# Altium footprint library PCB2.PcbLib: 26 footprints (part 1 of 2)
Each footprint in its own frame and in the unit in brackets; x right, y up, seen from the top. Pads: shape width x height; smd on the part's side, far side on the other; paste and mask are expansions set on the pad; w line width, h text height; cw(c..) or ccw(c..) is an arc to the next point about the centre after c.
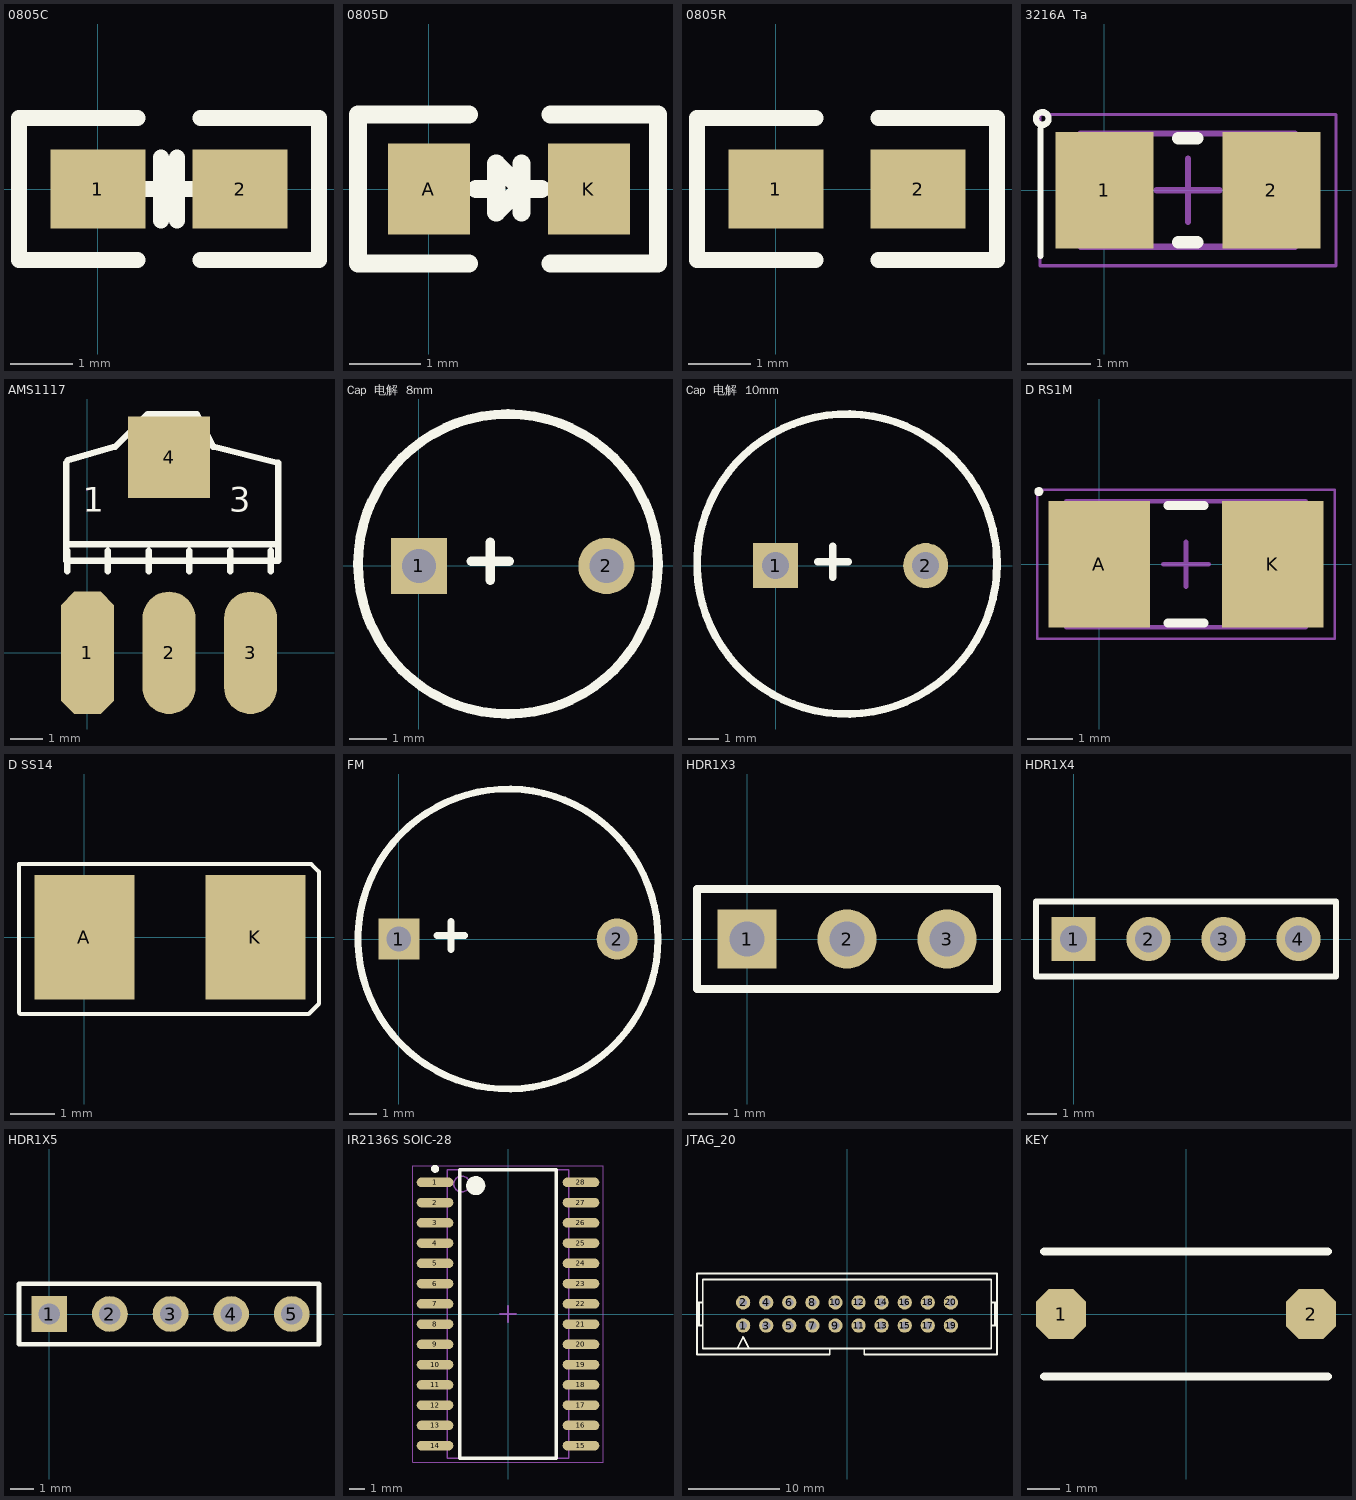
[diagram p0: the footprints below, top view; thin cyan lines are the x and y axes]

## 0805C [mil]
pads (2):
  rect 60x50 smd: 1(0,0) 2(90,0)
Top Overlay:
  lines w10: 25,-45 -50,-45 -50,45 25,45 ; 30,0 40,0 ; 40,-20 40,20 ; 50,-20 50,20 ; 50,0 60,0 ; 65,-45 140,-45 140,45 65,45

## 0805D [mil]
pads (2):
  rect 45x50 smd: A(0,0) K(88,0)
Top Overlay:
  lines w10: 22,-41 -39,-41 -39,41 22,41 ; 26,0 36,0 ; 51,-13 51,14 ; 62,0 51,0 ; 67,-41 126,-41 126,41 67,41 ; 51,0 50,0 37,-13 37,14 51,0

## 0805R [mil]
pads (2):
  rect 60x50 smd: 1(0,0) 2(90,0)
Top Overlay:
  lines w10: 25,-45 -50,-45 -50,45 25,45 ; 65,-45 140,-45 140,45 65,45

## 3216A  Ta [mm]
pads (2):
  rect 1.55x1.85 smd: 1(0,0) 2(2.65,0)
Top Overlay:
  circle w0.1: c-0.987,1.137 r0.1
  lines w0.1: -1.016,-1.041 -1.016,0.965
  lines w0.2: 1.175,-0.825 1.475,-0.825 ; 1.175,0.825 1.475,0.825
Mechanical 13:
  lines w0.1: -0.375,-0.9 -0.375,0.9 3.025,0.9 3.025,-0.9 -0.375,-0.9
Mechanical 15:
  lines w0.05: -1.025,-1.2 -1.025,1.2 3.675,1.2 3.675,-1.2 -1.025,-1.2
  lines w0.1: 0.825,0 1.825,0 ; 1.325,-0.5 1.325,0.5
3D body: height 1.7, standoff 0, extent 0.575,-0.9 2.075,0.9
3D body: height 1.7, standoff 0, extent -0.375,-0.9 0.575,0.9
3D body: height 1.7, standoff 0, extent 2.075,-0.9 3.025,0.9

## AMS1117 [mil]
pads (4):
  oct 65x150 smd: 1(0.03,-0.06)
  oval 65x150 smd: 2(100.03,-0.06) 3(200.03,-0.06)
  rect 100x100 smd: 4(100.03,239.94)
Top Overlay:
  lines w7.87: -25.97,232.94 -25.97,132.94 ; -24.97,99.94 -24.97,124.94 ; -24.3,236.27 34.03,252.94 74.03,292.94 134.03,292.94 154.03,252.94 234.03,232.94 234.03,112.94 ; 25.03,99.94 25.03,124.94 ; 75.03,99.94 75.03,124.94 ; 125.03,99.94 125.03,124.94 ; 175.03,99.94 175.03,124.94 ; 225.03,99.94 225.03,124.94 ; -25.97,132.94 -25.97,112.94 234.03,112.94 ; -25.97,132.94 234.03,132.94 234.03,112.94
  text "1" at -5.97,172.94 h30
  text "3" at 174.03,172.94 h30

## Cap  电解  8mm [mm]
pads (2):
  rect 1.5x1.5 hole 0.9: 1(0,0)
  round 1.5 hole 0.9: 2(5,0)
Top Overlay:
  circle w0.254: c2.375,0.051 r4
  lines w0.254: 1.397,0.127 2.413,0.127 ; 1.905,-0.381 1.905,0.635

## Cap  电解  10mm [mm]
pads (2):
  rect 1.5x1.5 hole 0.9: 1(0,0)
  round 1.5 hole 0.9: 2(5,0)
Top Overlay:
  circle w0.254: c2.375,0.051 r5
  lines w0.254: 1.397,0.127 2.413,0.127 ; 1.905,-0.381 1.905,0.635

## D RS1M [mm]
pads (2):
  rect 2.25x2.8 smd: A(0,0) K(3.85,0)
Top Overlay:
  circle w0.1: c-1.337,1.612 r0.05
  lines w0.2: 1.525,-1.3 2.325,-1.3 ; 1.525,1.3 2.325,1.3
Mechanical 13:
  lines w0.1: -0.725,-1.395 -0.725,1.395 4.575,1.395 4.575,-1.395 -0.725,-1.395
Mechanical 15:
  lines w0.05: -1.375,-1.65 -1.375,1.65 5.225,1.65 5.225,-1.65 -1.375,-1.65
  lines w0.1: 1.425,0 2.425,0 ; 1.925,-0.5 1.925,0.5
3D body: height 2.3, standoff 0, extent 0.525,-1.395 3.325,1.395
3D body: height 2.3, standoff 0, extent -0.725,-1.395 0.525,1.395
3D body: height 2.3, standoff 0, extent 3.325,-1.395 4.575,1.395

## D SS14 [mm]
pads (2):
  rect 2.25x2.8 smd: A(0,0) K(3.85,0)
Top Overlay:
  lines w0.1: -1.473,-1.702 -1.473,1.651 -1.194,1.651 5.105,1.651 5.283,1.473 5.283,-1.499 5.055,-1.727 -1.448,-1.727 -1.473,-1.702

## FM [mm]
pads (2):
  rect 1.5x1.5 hole 0.9: 1(0,0)
  round 1.5 hole 0.9: 2(8,0)
Top Overlay:
  circle w0.254: c4,0 r5.5
  lines w0.254: 1.397,0.127 2.413,0.127 ; 1.905,-0.381 1.905,0.635

## HDR1X3 [mm]
pads (3):
  rect 1.5x1.5 hole 0.9: 1(0,0)
  round 1.5 hole 0.9: 2(2.54,0) 3(5.08,0)
Top Overlay:
  lines w0.2: -1.27,-1.27 6.35,-1.27 6.35,1.27 -1.27,1.27 -1.27,-1.27

## HDR1X4 [mm]
pads (4):
  rect 1.5x1.5 hole 0.9: 1(0,0)
  round 1.5 hole 0.9: 2(2.54,0) 3(5.08,0) 4(7.62,0)
Top Overlay:
  lines w0.2: -1.27,-1.27 8.89,-1.27 8.89,1.27 -1.27,1.27 -1.27,-1.27

## HDR1X5 [mm]
pads (5):
  rect 1.5x1.5 hole 0.9: 1(0,0)
  round 1.5 hole 0.9: 2(2.54,0) 3(5.08,0) 4(7.62,0) 5(10.16,0)
Top Overlay:
  lines w0.2: -1.27,-1.27 11.303,-1.27 11.303,1.27 -1.27,1.27 -1.27,-1.27

## IR2136S SOIC-28 [mm]
pads (28):
  oval 2.3x0.6 smd: 1(-4.575,8.255) 2(-4.575,6.985) 3(-4.575,5.715) 4(-4.575,4.445) 5(-4.575,3.175) 6(-4.575,1.905) 7(-4.575,0.635) 8(-4.575,-0.635) 9(-4.575,-1.905) 10(-4.575,-3.175) 11(-4.575,-4.445) 12(-4.575,-5.715) 13(-4.575,-6.985) 14(-4.575,-8.255) 15(4.575,-8.255) 16(4.575,-6.985) 17(4.575,-5.715) 18(4.575,-4.445) 19(4.575,-3.175) 20(4.575,-1.905) 21(4.575,-0.635) 22(4.575,0.635) 23(4.575,1.905) 24(4.575,3.175) 25(4.575,4.445) 26(4.575,5.715) 27(4.575,6.985) 28(4.575,8.255)
Top Overlay:
  circle w0.6: c-2.025,8.05 r0.3
  circle w0.25: c-4.575,9.105 r0.125
  lines w0.2: -3.025,-9.05 3.025,-9.05 3.025,9.05 -3.025,9.05 -3.025,-9.05
Mechanical 13:
  circle w0.1: c-2.9,8.15 r0.5
  lines w0.1: -3.8,-9.05 3.8,-9.05 3.8,9.05 -3.8,9.05 -3.8,-9.05
Mechanical 15:
  lines w0.05: -5.975,-9.3 5.975,-9.3 5.975,9.3 -5.975,9.3 -5.975,-9.3
  lines w0.1: -0.5,0 0.5,0 ; 0,-0.5 0,0.5
3D body: height 2.65, standoff 0.23, extent -3.8,-9.05 3.8,9.05

## JTAG_20 [mil]
pads (20):
  round 62 hole 35: 1(-450,-50) 2(-450,50) 3(-350,-50) 4(-350,50) 5(-250,-50) 6(-250,50) 7(-150,-50) 8(-150,50) 9(-50,-50) 10(-50,50) 11(50,-50) 12(50,50) 13(150,-50) 14(150,50) 15(250,-50) 16(250,50) 17(350,-50) 18(350,50) 19(450,-50) 20(450,50)
Top Overlay:
  lines w8: -650,-50 -625,-50 ; -650,50 -625,50 ; -641.67,-50 -641.67,50 ; -475,-150 -450,-100 -425,-150 ; -339.57,-175 -75,-175 -75,-150 ; -325,-175 -650,-175 -650,175 650,175 650,-175 325,-175 75,-175 75,-150 ; 625,-50 650,-50 ; 625,50 650,50 ; 641.67,-50 641.67,50 ; -75,-150 75,-150 ; -75,-150 -625,-150 -625,150 625,150 625,-150 75,-150

## KEY [mil]
pads (2):
  oct 60x60 smd: 1(-150,0) 2(150,0)
Top Overlay:
  lines w10: -170,-75 170,-75 ; -170,75 170,75